# Altium schematic symbol library CubSat.SchLib: 5 symbols
Pins are listed as number, name and electrical type; pins without a type are passive.

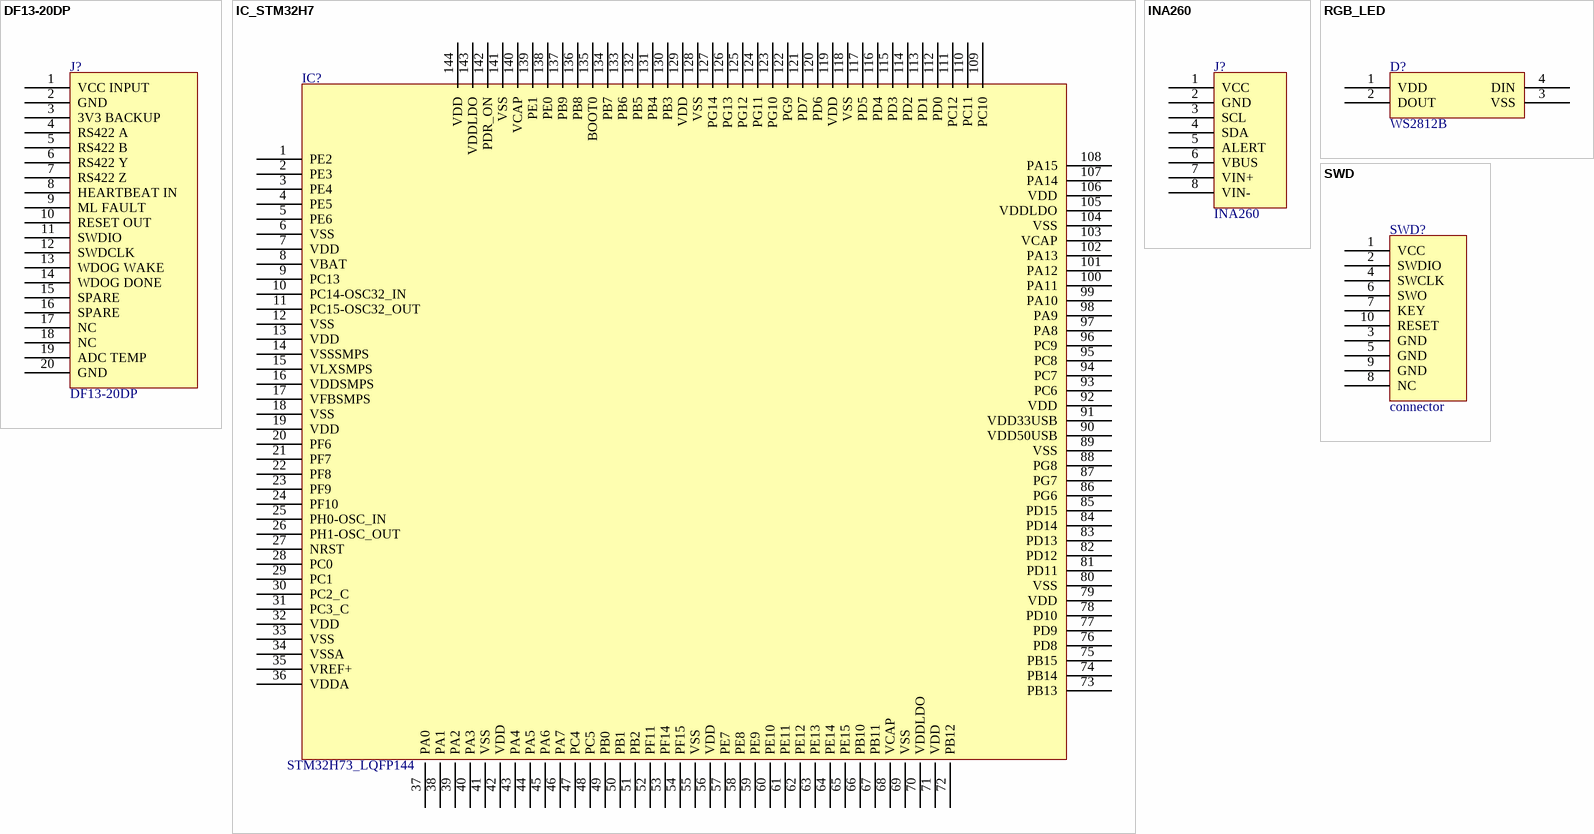
[diagram p0: symbols DF13-20DP to SWD]

## DF13-20DP
designator J?
footprint DF13-20DP
pins: 1 VCC INPUT, 2 GND, 3 3V3 BACKUP, 4 RS422 A, 5 RS422 B, 6 RS422 Y, 7 RS422 Z, 8 HEARTBEAT IN, 9 ML FAULT, 10 RESET OUT, 11 SWDIO, 12 SWDCLK, 13 WDOG WAKE, 14 WDOG DONE, 15 SPARE, 16 SPARE, 17 NC, 18 NC, 19 ADC TEMP, 20 GND

## IC_STM32H7
designator IC?, comment STM32H73_LQFP144
The STM32H735 is a high-performance 32-bit ARM® Cortex®-M7 microcontroller developed by STMicroelectronics. / It belongs to the STM32H7 family, which is designed for applications requiring very high processing power, fast data handling, and advanced control features.; Core: ARM® Cortex®-M7 32-bit CPU running up to 550 MHz; Flash Memory: 1 MB on-chip Flash; RAM: 564 KB total SRAM (including TCM and AXI SRAM); Operating Voltage: 1.62 V to 3.6 V; Clock System: Internal and external oscillators, with PLL for high-speed operation; Floating Point Unit (FPU): Single-precision FPU and DSP instructions; Security: Hardware cryptographic acceleration (AES, SHA, RSA, PKA), true RNG; DMA: Up to 16-stream DMA controller for fast peripheral data transfer; Timers: Up to 22 timers, including advanced PWM, encoder, and motor control timers; Communication Interfaces: - 3× I²C; ADC / DAC: - 3× 16-bit ADC (up to 3.6 MSPS); Package: LQFP144 — 144-pin Low-Profile Quad Flat Package
footprint STM32H735LQFP144
pins: 1 PE2, 2 PE3, 3 PE4, 4 PE5, 5 PE6, 6 VSS, 7 VDD, 8 VBAT, 9 PC13, 10 PC14-OSC32_IN, 11 PC15-OSC32_OUT, 12 VSS, 13 VDD, 14 VSSSMPS, 15 VLXSMPS, 16 VDDSMPS, 17 VFBSMPS, 18 VSS, 19 VDD, 20 PF6, 21 PF7, 22 PF8, 23 PF9, 24 PF10, 25 PH0-OSC_IN, 26 PH1-OSC_OUT, 27 NRST, 28 PC0, 29 PC1, 30 PC2_C, 31 PC3_C, 32 VDD, 33 VSS, 34 VSSA, 35 VREF+, 36 VDDA, 37 PA0, 38 PA1, 39 PA2, 40 PA3, 41 VSS, 42 VDD, 43 PA4, 44 PA5, 45 PA6, 46 PA7, 47 PC4, 48 PC5, 49 PB0, 50 PB1, 51 PB2, 52 PF11, 53 PF14, 54 PF15, 55 VSS, 56 VDD, 57 PE7, 58 PE8, 59 PE9, 60 PE10, 61 PE11, 62 PE12, 63 PE13, 64 PE14, 65 PE15, 66 PB10, 67 PB11, 68 VCAP, 69 VSS, 70 VDDLDO, 71 VDD, 72 PB12, 73 PB13, 74 PB14, 75 PB15, 76 PD8, 77 PD9, 78 PD10, 79 VDD, 80 VSS, 81 PD11, 82 PD12, 83 PD13, 84 PD14, 85 PD15, 86 PG6, 87 PG7, 88 PG8, 89 VSS, 90 VDD50USB, 91 VDD33USB, 92 VDD, 93 PC6, 94 PC7, 95 PC8, 96 PC9, 97 PA8, 98 PA9, 99 PA10, 100 PA11, 101 PA12, 102 PA13, 103 VCAP, 104 VSS, 105 VDDLDO, 106 VDD, 107 PA14, 108 PA15, 109 PC10, 110 PC11, 111 PC12, 112 PD0, 113 PD1, 114 PD2, 115 PD3, 116 PD4, 117 PD5, 118 VSS, 119 VDD, 120 PD6, 121 PD7, 122 PG9, 123 PG10, 124 PG11, 125 PG12, 126 PG13, 127 PG14, 128 VSS, 129 VDD, 130 PB3, 131 PB4, 132 PB5, 133 PB6, 134 PB7, 135 BOOT0, 136 PB8, 137 PB9, 138 PE0, 139 PE1, 140 VCAP, 141 VSS, 142 PDR_ON, 143 VDDLDO, 144 VDD

## INA260
designator J?
footprint INA260
pins: 1 VCC, 2 GND, 3 SCL, 4 SDA, 5 ALERT, 6 VBUS, 7 VIN+, 8 VIN-

## RGB_LED
designator D?, comment WS2812B
footprint WS2812B; pin to pad 1>A1 2>B1 3>B2 4>A2
pins: 1 VDD, 2 DOUT , 3 VSS, 4 DIN

## SWD
designator SWD?, comment connector
footprint SWD (connector)
pins: 1 VCC, 2 SWDIO, 3 GND, 4 SWCLK, 5 GND, 6 SWO, 7 KEY, 8 NC, 9 GND, 10 RESET